# EAGLE library part MC3479P (library untitled)
ON semiconductor MC3479P stepper driver IC, DIL-16 package
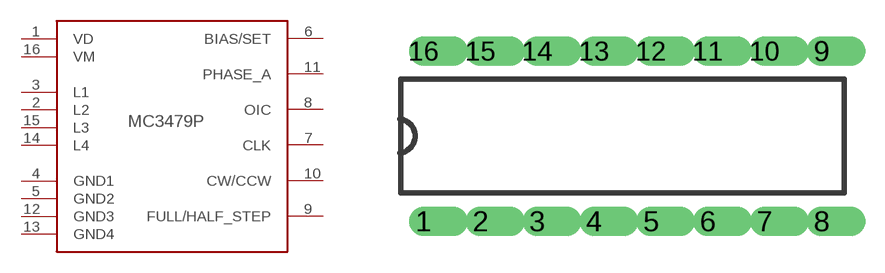
[diagram p0: symbol with the pads of DIL-16; footprint DIL-16]

Designator prefix -

## MC3479P  [DIL-16]
1  VD
2  L2
3  L1
4  GND1
5  GND2
6  BIAS/SET
7  CLK
8  OIC
9  FULL/HALF_STEP
10  CW/CCW
11  PHASE_A
12  GND3
13  GND4
14  L4
15  L3
16  VM

## Footprint DIL-16 (pad centres in mm)
DIL-16
drill 0.813 offset: 1 -8.89,-3.81; 2 -6.35,-3.81; 3 -3.81,-3.81; 4 -1.27,-3.81; 5 1.27,-3.81; 6 3.81,-3.81; 7 6.35,-3.81; 8 8.89,-3.81; 9 8.89,3.81; 10 6.35,3.81; 11 3.81,3.81; 12 1.27,3.81; 13 -1.27,3.81; 14 -3.81,3.81; 15 -6.35,3.81; 16 -8.89,3.81